# Altium footprint library CUonChan.PcbLib: 1 footprints
Each footprint in its own frame and in the unit in brackets; x right, y up, seen from the top. Pads: shape width x height; smd on the part's side, far side on the other; paste and mask are expansions set on the pad; w line width, h text height; cw(c..) or ccw(c..) is an arc to the next point about the centre after c.
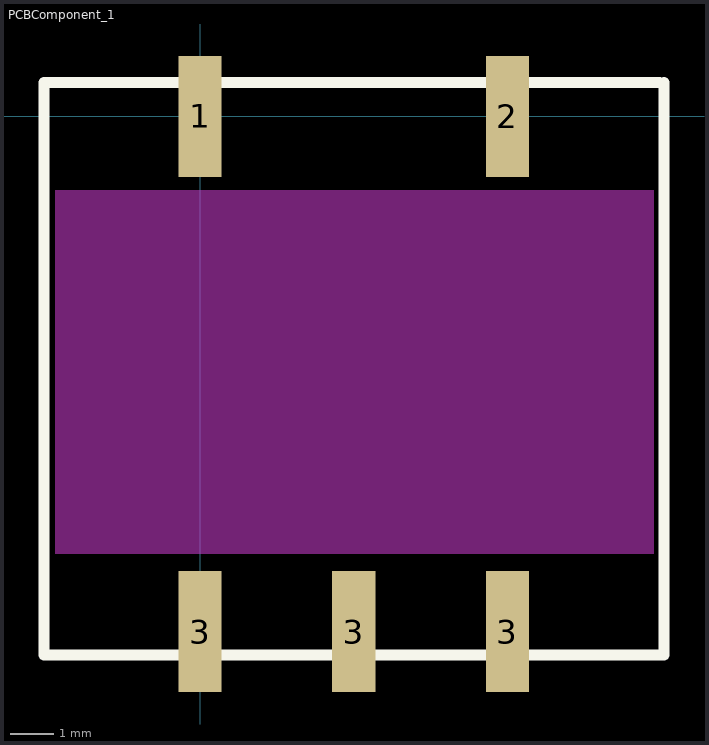
[diagram p0: the footprint, top view; thin cyan lines are the x and y axes]

## PCBComponent_1 [mm]
pads (5):
  rect 1x2.8 smd: 1(0,0) 2(7.1,0) 3(0,-11.9) 3(3.55,-11.9) 3(7.1,-11.9)
Top Layer keep-out:
  rectangle: -3.353,-10.109 10.49,-1.702
Top Overlay:
  lines w0.254: 10.617,0.787 -3.607,0.787 -3.607,-12.446 10.719,-12.446 10.719,0.787